# EAGLE library part ?M07B-SRSS-TB (library HKCV4)
Disconnectable Crimp style connector, 1.0mm pitch 7 contacts
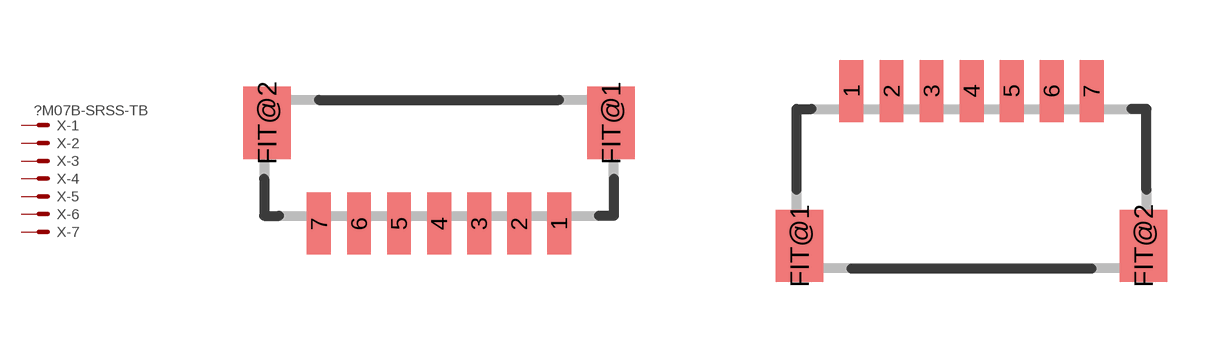
[diagram p3: symbol with the pads of BM07B-SRSS-TB; footprints BM07B-SRSS-TB, SM07B-SRSS-TB]

Designator prefix X; gates -1=KV -2=K -3=K -4=K -5=K -6=K -7=K

## BM07B-SRSS-TB  [BM07B-SRSS-TB]
1  -1:S  pas
2  -2:S  pas
3  -3:S  pas
4  -4:S  pas
5  -5:S  pas
6  -6:S  pas
7  -7:S  pas

## SM07B-SRSS-TB  [SM07B-SRSS-TB]
Pads as for BM07B-SRSS-TB

## Footprint BM07B-SRSS-TB (pad centres in mm)
Shrouded Header, top entry type
smd 0.6 x 1.55: 1 3,-1.625; 2 2,-1.625; 3 1,-1.625; 4 0,-1.625; 5 -1,-1.625; 6 -2,-1.625; 7 -3,-1.625
smd 1.2 x 1.8: FIT@1 4.3,0.9; FIT@2 -4.3,0.9

## Footprint SM07B-SRSS-TB (pad centres in mm)
Shrouded Header, side entry type
smd 0.6 x 1.55: 1 -3,2.975; 2 -2,2.975; 3 -1,2.975; 4 0,2.975; 5 1,2.975; 6 2,2.975; 7 3,2.975
smd 1.2 x 1.8: FIT@1 -4.3,-0.9; FIT@2 4.3,-0.9